# Altium schematic symbol library ESP 01.SchLib: 1 symbol
Pins are listed as number, name and electrical type; pins without a type are passive.

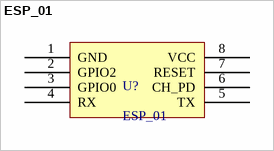
[diagram p0: symbol ESP_01]

## ESP_01
designator U?
footprint ESP01
pins: 1 GND, 2 GPIO2, 3 GPIO0, 4 RX, 5 TX, 6 CH_PD, 7 RESET, 8 VCC